# Altium integrated library Galvanic_IC.IntLib: 2 symbols
Pins are listed as number, name and electrical type; pins without a type are passive.

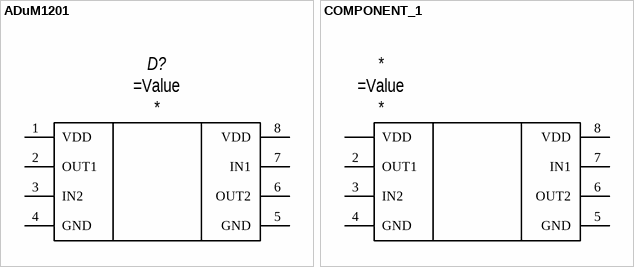
[diagram p0: symbols ADuM1201 to COMPONENT_1]

## ADuM1201
designator D?
Manufacturer: *; HelpURL: *; Value: =Value
pins: 1 VDD, 2 OUT1, 3 IN2, 4 GND, 5 GND, 6 OUT2, 7 IN1, 8 VDD

## COMPONENT_1
designator *
Manufacturer: *; HelpURL: *; Value: =Value
pins: 1 VDD, 2 OUT1, 3 IN2, 4 GND, 5 GND, 6 OUT2, 7 IN1, 8 VDD